# Altium schematic symbol library LD09S33E4GV00LF.SchLib: 1 symbol
Pins are listed as number, name and electrical type; pins without a type are passive.

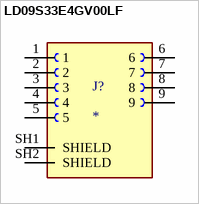
[diagram p0: symbol LD09S33E4GV00LF]

## LD09S33E4GV00LF
designator J?
D-Subminiature Economy Range, Input Output Connectors, Signal 9 way Socket Right Angle, Solder US standard, 50 cycles, Harpoons + Female Screw UNC 4 - 40 + Elec cont., 1.6 mm PCB thickness; MF: Amphenol ICC; MP: LD09S33E4GV00LF; SnapEDA_Link: https://www.snapeda.com/parts/LD09S33E4GV00LF/Amphenol+FCI/view-part/?ref=snap; Package: None; Value: *; Check_prices: https://www.snapeda.com/parts/LD09S33E4GV00LF/Amphenol+FCI/view-part/?ref=eda
footprint AMPHENOL_LD09S33E4GV00LF
pins: 1, 2, 3, 4, 5, 6, 7, 8, 9, SH1 SHIELD, SH2 SHIELD